# EAGLE library part ESP8266 (library idiotic-microcontrollers)
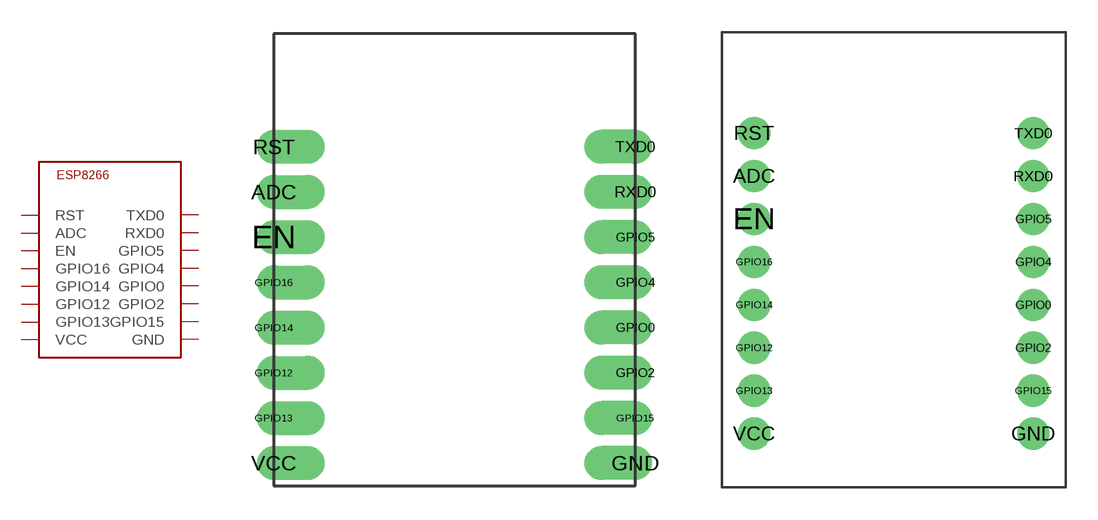
[diagram p0: symbol with the pads of ESP8266-07; footprints ESP8266-07, ESP8266-07-HEADER]

Designator prefix -

## ESP8266SMD  [ESP8266-07]
ADC  ADC  in
EN  EN  in
GND  GND  pwr
GPIO0  GPIO0
GPIO2  GPIO2
GPIO4  GPIO4
GPIO5  GPIO5
GPIO12  GPIO12
GPIO13  GPIO13
GPIO14  GPIO14
GPIO15  GPIO15
GPIO16  GPIO16
RST  RST  in
RXD0  RXD0
TXD0  TXD0
VCC  VCC  pwr

## ESP8266HEADER  [ESP8266-07-HEADER]
Pads as for ESP8266-07

## ESP8266-12E  [ESP8266-12E]
Pads as for ESP8266-07

## ESP8266-12E-SMD  [ESP8266-12E-SMD]
Pads as for ESP8266-07

## Footprint ESP8266-07 (pad centres in mm)
drill 1 pad 1.2 offset: ADC -6,6; EN -6,4; GND 10,-6; GPIO0 10,0; GPIO2 10,-2; GPIO4 10,2; GPIO5 10,4; GPIO12 -6,-2; GPIO13 -6,-4; GPIO14 -6,0; GPIO15 10,-4; GPIO16 -6,2; RST -6,8; RXD0 10,6; TXD0 10,8; VCC -6,-6

## Footprint ESP8266-07-HEADER (pad centres in mm)
drill 0.7 pad 1.5: ADC -6.5,5; EN -6.5,3; GND 6.5,-7; GPIO0 6.5,-1; GPIO2 6.5,-3; GPIO4 6.5,1; GPIO5 6.5,3; GPIO12 -6.5,-3; GPIO13 -6.5,-5; GPIO14 -6.5,-1; GPIO15 6.5,-5; GPIO16 -6.5,1; RST -6.5,7; RXD0 6.5,5; TXD0 6.5,7; VCC -6.5,-7

## Footprint ESP8266-12E (pad centres in mm)
drill 1 pad 1.2 long: ADC 0,13; EN 0,11; GND 16,1; GPIO0 16,7; GPIO2 16,5; GPIO4 16,9; GPIO5 16,11; GPIO12 0,5; GPIO13 0,3; GPIO14 0,7; GPIO15 16,3; GPIO16 0,9; RST 0,15; RXD0 16,13; TXD0 16,15; VCC 0,1

## Footprint ESP8266-12E-SMD (pad centres in mm)
smd 2.5 x 1.2: ADC 0,13; EN 0,11; GND 16,1; GPIO0 16,7; GPIO2 16,5; GPIO4 16,9; GPIO5 16,11; GPIO12 0,5; GPIO13 0,3; GPIO14 0,7; GPIO15 16,3; GPIO16 0,9; RST 0,15; RXD0 16,13; TXD0 16,15; VCC 0,1